# Altium schematic symbol library 1744426-5.SchLib: 1 symbol
Pins are listed as number, name and electrical type; pins without a type are passive.

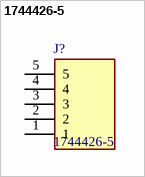
[diagram p0: symbol 1744426-5]

## 1744426-5
designator J?
Body Features: Primary Product Color White | Configuration Features: PCB Mount Orientation Right Angle | Number of Positions 5 | Number of Rows 1 | Connector Contact Load Condition Fully Loaded | Contact Features: Contact Mating Area Plating Material Tin | PCB Contact Termination Area Plating Material Tin | PCB Contact Termination Area Plating Material Thickness 80 MICIN | Contact Mating Area Plating Material Finish Bright | Contact Mating Area Plating Material Thickness 80 MICIN | Contact Current Rating (M; Manufacturer_Name: TE Connectivity; Geometry.Height: 7.8mm; Manufacturer_Part_Number: 1744426-5; Mouser Part Number: 571-1744426-5; Mouser Price/Stock: https://www.mouser.co.uk/ProductDetail/TE-Connectivity-AMP/1744426-5?qs=IGPQaF7TU6uIdpzZmqUmkg%3D%3D; Arrow Part Number: 1744426-5; Arrow Price/Stock: https://www.arrow.com/en/products/1744426-5/te-connectivity?region=nac; Datasheet Link: https://www.te.com/commerce/DocumentDelivery/DDEController?Action=srchrtrv&DocNm=7-1773461-6EP2.5&DocType=Data%20Sheet&DocLang=English&PartCntxt=1744426-5&DocFormat=pdf
footprint 17444265
pins: 1, 2, 3, 4, 5